# Altium schematic symbol library AMC1200SDUBR.SchLib: 1 symbol
Pins are listed as number, name and electrical type; pins without a type are passive.

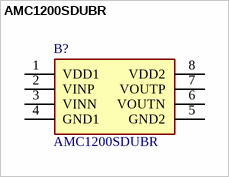
[diagram p0: symbol AMC1200SDUBR]

## AMC1200SDUBR
designator B?
Isolation Amplifiers 4kV peak Iso Amp; Manufacturer_Name: Texas Instruments; Geometry.Height: 4.85mm; Manufacturer_Part_Number: AMC1200SDUBR; Mouser Part Number: 595-AMC1200SDUBR; Mouser Price/Stock: https://www.mouser.co.uk/ProductDetail/Texas-Instruments/AMC1200SDUBR?qs=Nxfnlnd%252BiAcMKGpoVxsKlg%3D%3D; Arrow Part Number: AMC1200SDUBR; Arrow Price/Stock: https://www.arrow.com/en/products/amc1200sdubr/texas-instruments.html?utm_currency=USD&region=nac; Datasheet Link: https://www.ti.com/lit/gpn/AMC1200
footprint SOP254P1040X485-8N
pins: 1 VDD1, 2 VINP, 3 VINN, 4 GND1, 5 GND2, 6 VOUTN, 7 VOUTP, 8 VDD2